# Altium footprint library CM.PcbLib: 72 footprints (part 4 of 5)
Each footprint in its own frame and in the unit in brackets; x right, y up, seen from the top. Pads: shape width x height; smd on the part's side, far side on the other; paste and mask are expansions set on the pad; w line width, h text height; cw(c..) or ccw(c..) is an arc to the next point about the centre after c.
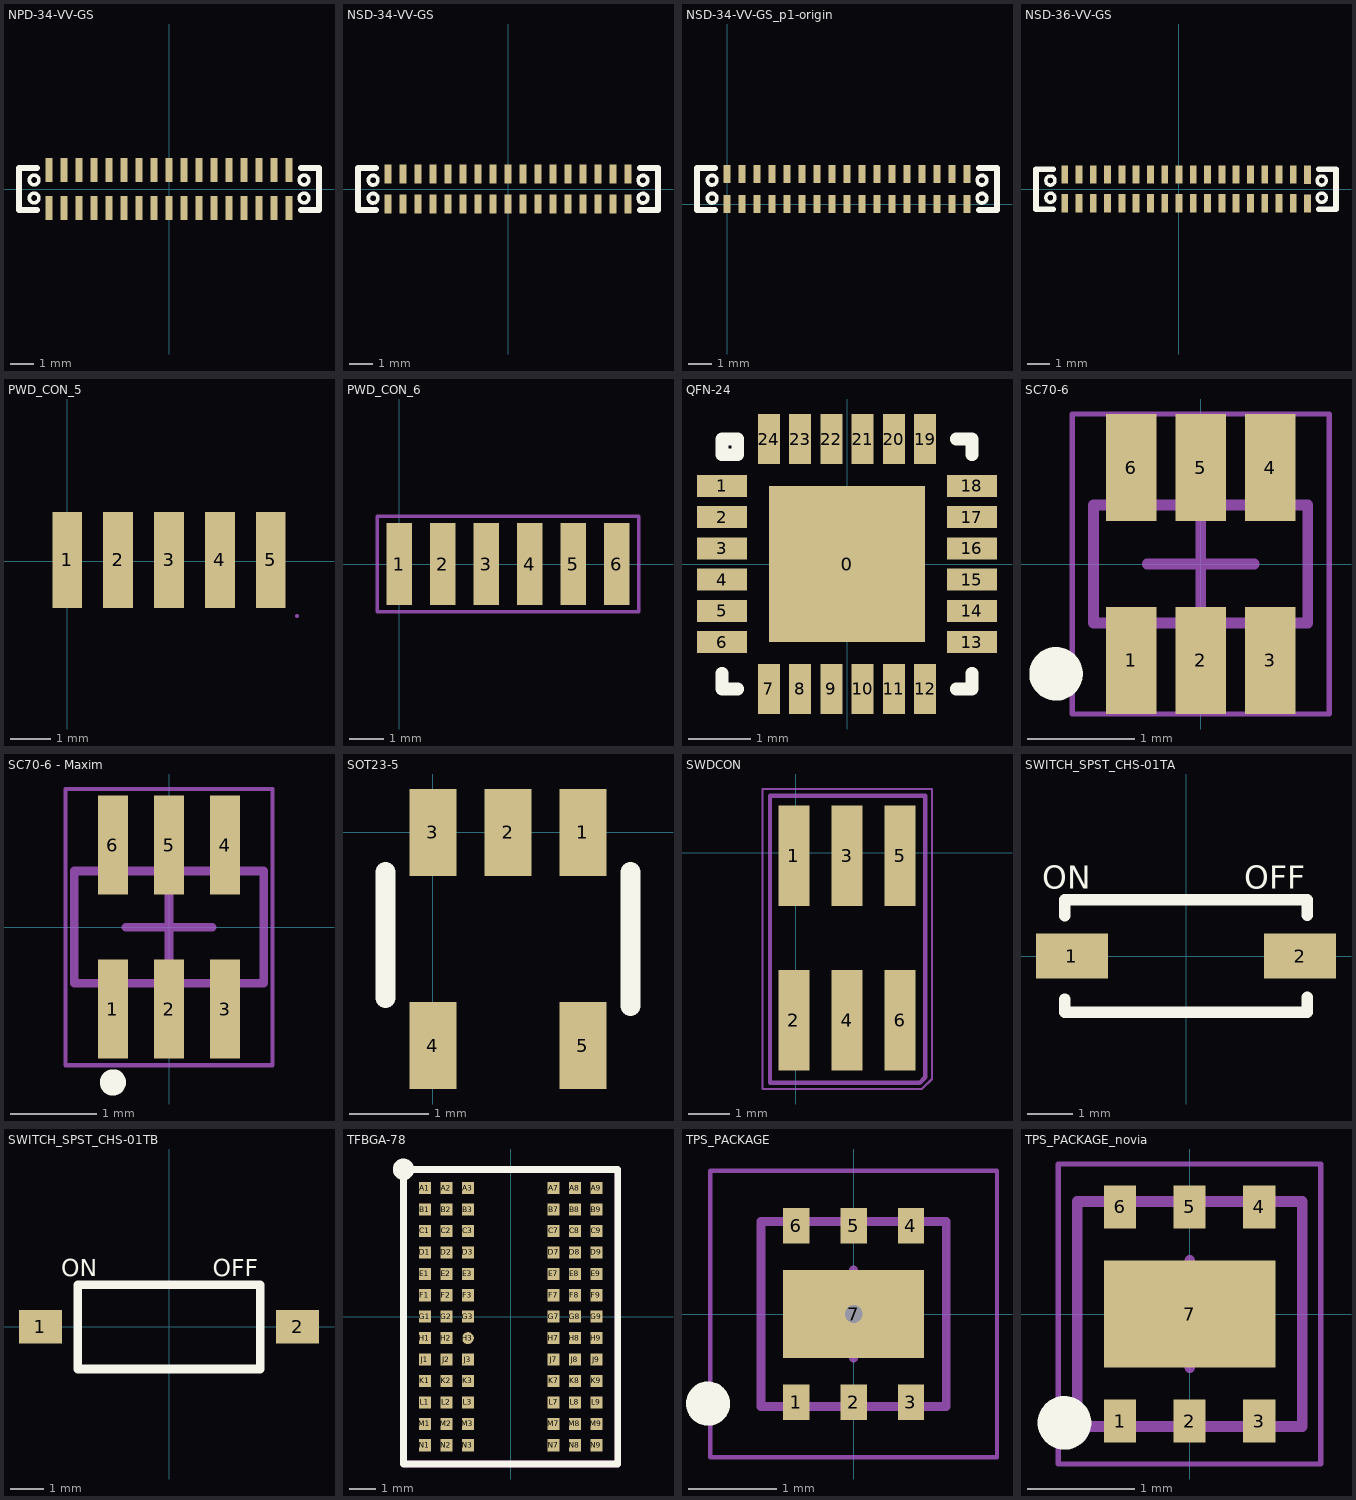
[diagram p3: the footprints below, top view; thin cyan lines are the x and y axes]

## NPD-34-VV-GS [mil]
pads (34):
  rect 12x40 smd: 1(-199.79,-32) 2(-199.79,32) 3(-174.79,-32) 4(-174.79,32) 5(-149.79,-32) 6(-149.79,32) 7(-124.79,-32) 8(-124.79,32) 9(-99.79,-32) 10(-99.79,32) 11(-74.79,-32) 12(-74.79,32) 13(-49.79,-32) 14(-49.79,32) 15(-24.79,-32) 16(-24.79,32) 17(0.21,-32) 18(0.21,32) 19(25.21,-32) 20(25.21,32) 21(50.21,-32) 22(50.21,32) 23(75.21,-32) 24(75.21,32) 25(100.21,-32) 26(100.21,32) 27(125.21,-32) 28(125.21,32) 29(150.21,-32) 30(150.21,32) 31(175.21,-32) 32(175.21,32) 33(200.21,-32) 34(200.21,32)
Top Overlay:
  circle w6: c-224.79,15 r8
  circle w6: c-224.79,-15 r8
  circle w6: c225.02,-15 r8
  circle w6: c225.02,15 r8
  lines w10: -220,-35 -250,-35 -250,35 -220,35 ; 220,-35 250,-35 250,35 220,35

## NSD-34-VV-GS [mil]
pads (34):
  rect 12x32 smd: 1(-199.79,-24.62) 2(-199.79,25.38) 3(-174.79,-24.62) 4(-174.79,25.38) 5(-149.79,-24.62) 6(-149.79,25.38) 7(-124.79,-24.62) 8(-124.79,25.38) 9(-99.79,-24.62) 10(-99.79,25.38) 11(-74.79,-24.62) 12(-74.79,25.38) 13(-49.79,-24.62) 14(-49.79,25.38) 15(-24.79,-24.62) 16(-24.79,25.38) 17(0.21,-24.62) 18(0.21,25.38) 19(25.21,-24.62) 20(25.21,25.38) 21(50.21,-24.62) 22(50.21,25.38) 23(75.21,-24.62) 24(75.21,25.38) 25(100.21,-24.62) 26(100.21,25.38) 27(125.21,-24.62) 28(125.21,25.38) 29(150.21,-24.62) 30(150.21,25.38) 31(175.21,-24.62) 32(175.21,25.38) 33(200.21,-24.62) 34(200.21,25.38)
Top Overlay:
  circle w6: c225.02,15 r8
  circle w6: c225.02,-15 r8
  circle w6: c-224.79,-15 r8
  circle w6: c-224.79,15 r8
  lines w10: -220,-35 -250,-35 -250,35 -220,35 ; 220,-35 250,-35 250,35 220,35

## NSD-34-VV-GS_p1-origin [mil]
pads (34):
  rect 12x30 smd: 1(0,0) 2(0,50) 3(25,0) 4(25,50) 5(50,0) 6(50,50) 7(75,0) 8(75,50) 9(100,0) 10(100,50) 11(125,0) 12(125,50) 13(150,0) 14(150,50) 15(175,0) 16(175,50) 17(200,0) 18(200,50) 19(225,0) 20(225,50) 21(250,0) 22(250,50) 23(275,0) 24(275,50) 25(300,0) 26(300,50) 27(325,0) 28(325,50) 29(350,0) 30(350,50) 31(375,0) 32(375,50) 33(400,0) 34(400,50)
Top Overlay:
  circle w6: c-25,39.62 r8
  circle w6: c-25,9.62 r8
  circle w6: c424.8,9.62 r8
  circle w6: c424.8,39.62 r8
  lines w10: -20.21,-10.38 -50.21,-10.38 -50.21,59.62 -20.21,59.62 ; 419.79,-10.38 449.79,-10.38 449.79,59.62 419.79,59.62

## NSD-36-VV-GS [mil]
pads (36):
  rect 12x32 smd: 1(-199.79,-24.62) 2(-199.79,25.38) 3(-174.79,-24.62) 4(-174.79,25.38) 5(-149.79,-24.62) 6(-149.79,25.38) 7(-124.79,-24.62) 8(-124.79,25.38) 9(-99.79,-24.62) 10(-99.79,25.38) 11(-74.79,-24.62) 12(-74.79,25.38) 13(-49.79,-24.62) 14(-49.79,25.38) 15(-24.79,-24.62) 16(-24.79,25.38) 17(0.21,-24.62) 18(0.21,25.38) 19(25.21,-24.62) 20(25.21,25.38) 21(50.21,-24.62) 22(50.21,25.38) 23(75.21,-24.62) 24(75.21,25.38) 25(100.21,-24.62) 26(100.21,25.38) 27(125.21,-24.62) 28(125.21,25.38) 29(150.21,-24.62) 30(150.21,25.38) 31(175.21,-24.62) 32(175.21,25.38) 33(200.21,-24.62) 34(200.21,25.38) 35(225,-25) 36(225,25)
Top Overlay:
  circle w6: c-224.79,15 r8
  circle w6: c-224.79,-15 r8
  circle w6: c250.02,-15 r8
  circle w6: c250.02,15 r8
  lines w10: -220,-35 -250,-35 -250,35 -220,35 ; 245,-35 275,-35 275,35 245,35
3D body: height 222.83, standoff 0, extent -250.98,-35.43 274.61,34.45

## PWD_CON_5 [mm]
pads (5):
  rect 0.74x2.4 smd: 1(0,0.03) 2(1.27,0.03) 3(2.54,0.03) 4(3.81,0.03) 5(5.08,0.03)
Mechanical 13:
  lines w0.1: 5.728,-1.368 5.73,-1.37

## PWD_CON_6 [mm]
pads (6):
  rect 0.74x2.4 smd: 1(0,0) 2(1.27,0) 3(2.54,0) 4(3.81,0) 5(5.08,0) 6(6.35,0)
Mechanical 13:
  lines w0.1: -0.635,-1.397 6.985,-1.397 6.985,1.397 -0.635,1.397 -0.635,-1.397
Mechanical 15:
  lines w0.05: -0.635,-1.397 2.468,-1.397 6.985,-1.397 6.985,1.397 -0.635,1.397 -0.635,-1.397

## QFN-24 [mm] "From MPU60x0 datasheet"
pads (25):
  rect 2.5x2.5 smd: 0(0,0)
  rect 0.8x0.35 smd: 1(-2,1.25) 2(-2,0.75) 3(-2,0.25) 4(-2,-0.25) 5(-2,-0.75) 6(-2,-1.25) 13(2,-1.25) 14(2,-0.75) 15(2,-0.25) 16(2,0.25) 17(2,0.75) 18(2,1.25)
  rect 0.35x0.8 smd: 7(-1.25,-2) 8(-0.75,-2) 9(-0.25,-2) 10(0.25,-2) 11(0.75,-2) 12(1.25,-2) 19(1.25,2) 20(0.75,2) 21(0.25,2) 22(-0.25,2) 23(-0.75,2) 24(-1.25,2)
Top Overlay:
  lines w0.203: -2,-1.75 -2,-2 -1.75,-2 ; 1.75,-2 2,-2 2,-1.75 ; 1.75,2 2,2 2,1.75 ; -2,1.75 -1.75,1.75 -1.75,2 -2,2 -2,1.75
3D body: height 0.9, standoff 0, extent -2,-2 2,2

## SC70-6 [mm] "QFN, 6-Leads, Body 2,00x2,00mm, Pitch 0,65mm, Thermal Pad 1,60x1,00mm, IPC Medium Density"
height 0.8
pads (6):
  rect 0.47x1 smd: 1(-0.65,-0.9) 2(0,-0.9) 3(0.65,-0.9) 4(0.65,0.9) 5(0,0.9) 6(-0.65,0.9)
Top Overlay:
  circle w0.25: c-1.35,-1.025 r0.125
Mechanical 13:
  lines w0.1: -1,-0.55 1,-0.55 ; -1,-0.525 -1,0.55 1,0.55 1,-0.525
Mechanical 15:
  lines w0.05: -1.2,-1.4 1.2,-1.4 1.2,1.4 -1.2,1.4 -1.2,-1.4
  lines w0.1: -0.5,0 0.5,0 ; 0,-0.5 0,0.5
3D body: height 0.8, standoff 0.05, extent -1,-0.55 1,0.55

## SC70-6 - Maxim [mm] "QFN, 6-Leads, Body 2,00x2,00mm, Pitch 0,65mm, Thermal Pad 1,60x1,00mm, IPC Medium Density"
height 0.8
pads (6):
  rect 0.35x1.15 smd: 1(-0.65,-0.95) 2(0,-0.95) 3(0.65,-0.95) 4(0.65,0.95) 5(0,0.95) 6(-0.65,0.95)
Top Overlay:
  circle w0.152: c-0.65,-1.8 r0.076
Mechanical 13:
  lines w0.1: -1.1,-0.65 -1.1,0.65 1.1,0.65 1.1,-0.65 -1.1,-0.65
Mechanical 15:
  lines w0.05: -1.2,-1.6 1.2,-1.6 1.2,1.6 -1.2,1.6 -1.2,-1.6
  lines w0.1: -0.5,0 0.5,0 ; 0,-0.5 0,0.5
3D body: height 0.8, standoff 0.05, extent -1,-0.55 1,0.55

## SOT23-5 [mm]
pads (5):
  rect 0.6x1.1 smd: 1(1.9,0) 2(0.95,0) 3(0,0) 4(0,-2.7) 5(1.9,-2.7)
Top Overlay:
  lines w0.254: -0.6,-2.1 -0.6,-0.5 ; 2.5,-2.2 2.5,-0.5

## SWDCON [mm]
pads (6):
  rect 0.74x2.4 smd: 1(-0.04,-0.08) 2(-0.04,-4.01) 3(1.23,-0.08) 4(1.23,-4.01) 5(2.5,-0.08) 6(2.5,-4.01)
Mechanical 13:
  lines w0.1: -0.61,-5.5 -0.61,1.36 3.1,1.36 3.1,-2.392 3.1,-3.11 3.1,-5.37 2.97,-5.5 -0.61,-5.5
Mechanical 15:
  lines w0.05: -0.79,-5.65 -0.79,1.52 3.26,1.52 3.26,-3.28 3.26,-5.41 3.02,-5.65 -0.79,-5.65
3D body: height 0.8, standoff 0.05, extent -0.626,-4.55 3.1,0.35

## SWITCH_SPST_CHS-01TA [mm] "One bit SPST DIP switch, J-hook"
pads (2):
  rect 1.6x1 smd: 1(-2.54,0) 2(2.54,0)
Top Overlay:
  lines w0.254: -2.7,-0.958 -2.7,-1.25 2.7,-1.25 2.7,-0.922 ; -2.7,0.897 -2.7,1.25 2.7,1.25 2.7,0.907
  text "OFF" at 1.3,1.5 h0.51
  text "ON" at -3.2,1.5 h0.51

## SWITCH_SPST_CHS-01TB [mm] "One bit SPST DIP switch, gull wing"
pads (2):
  rect 1.27x1 smd: 1(-3.81,0) 2(3.81,0)
Top Overlay:
  lines w0.254: -2.7,-1.25 2.7,-1.25 2.7,1.25 -2.7,1.25 -2.7,-1.25
  text "ON" at -3.2,1.5 h0.51
  text "OFF" at 1.3,1.5 h0.51
3D body: height 2.5, standoff 0, extent -2.7,-1.25 2.7,1.25

## TFBGA-78 [mm]
pads (78):
  rect 0.45x0.45 smd: A1(-3.2,4.8) A2(-2.4,4.8) A3(-1.6,4.8) A7(1.6,4.8) A8(2.4,4.8) A9(3.2,4.8) B1(-3.2,4) B2(-2.4,4) B3(-1.6,4) B7(1.6,4) B8(2.4,4) B9(3.2,4) C1(-3.2,3.2) C2(-2.4,3.2) C3(-1.6,3.2) C7(1.6,3.2) C8(2.4,3.2) C9(3.2,3.2) D1(-3.2,2.4) D2(-2.4,2.4) D3(-1.6,2.4) D7(1.6,2.4) D8(2.4,2.4) D9(3.2,2.4) E1(-3.2,1.6) E2(-2.4,1.6) E3(-1.6,1.6) E7(1.6,1.6) E8(2.4,1.6) E9(3.2,1.6) F1(-3.2,0.8) F2(-2.4,0.8) F3(-1.6,0.8) F7(1.6,0.8) F8(2.4,0.8) F9(3.2,0.8) G1(-3.2,0) G2(-2.4,0) G3(-1.6,0) G7(1.6,0) G8(2.4,0) G9(3.2,0) H1(-3.2,-0.8) H2(-2.4,-0.8) H7(1.6,-0.8) H8(2.4,-0.8) H9(3.2,-0.8) J1(-3.2,-1.6) J2(-2.4,-1.6) J3(-1.6,-1.6) J7(1.6,-1.6) J8(2.4,-1.6) J9(3.2,-1.6) K1(-3.2,-2.4) K2(-2.4,-2.4) K3(-1.6,-2.4) K7(1.6,-2.4) K8(2.4,-2.4) K9(3.2,-2.4) L1(-3.2,-3.2) L2(-2.4,-3.2) L3(-1.6,-3.2) L7(1.6,-3.2) L8(2.4,-3.2) L9(3.2,-3.2) M1(-3.2,-4) M2(-2.4,-4) M3(-1.6,-4) M7(1.6,-4) M8(2.4,-4) M9(3.2,-4) N1(-3.2,-4.8) N2(-2.4,-4.8) N3(-1.6,-4.8) N7(1.6,-4.8) N8(2.4,-4.8) N9(3.2,-4.8)
  round 0.45 smd: H3(-1.6,-0.8)
Top Overlay:
  circle w0.4: c-4,5.5 r0.2
  lines w0.254: -4,-5.5 -4,5.5 4,5.5 4,-5.5 -4,-5.5
Keep-Out Layer:
  lines w0.254: -4,-5.5 -4,5.5 4,5.5 4,-5.5 -4,-5.5

## TPS_PACKAGE [mm] "QFN, 6-Leads, Body 2,00x2,00mm, Pitch 0,65mm, Thermal Pad 1,60x1,00mm, IPC Medium Density"
height 0.8
pads (7):
  rect 0.3x0.4 smd: 1(-0.65,-1) 2(0,-1) 3(0.65,-1) 4(0.65,1) 5(0,1) 6(-0.65,1)
  rect 1.6x1 smd: 7(0,0)
via 0,0 diameter 0.5 hole 0.2
Top Overlay:
  circle w0.25: c-1.651,-1.016 r0.125
Mechanical 13:
  lines w0.1: -1.05,-1.05 -1.05,1.05 1.05,1.05 1.05,-1.05 -1.05,-1.05
Mechanical 15:
  lines w0.05: -1.625,-1.625 -1.625,1.625 1.625,1.625 1.625,-1.625 -1.625,-1.625
  lines w0.1: -0.5,0 0.5,0 ; 0,-0.5 0,0.5
3D body: height 0.8, standoff 0.05, extent -1.05,-1.05 1.05,1.05

## TPS_PACKAGE_novia [mm] "QFN, 6-Leads, Body 2,00x2,00mm, Pitch 0,65mm, Thermal Pad 1,60x1,00mm, IPC Medium Density"
height 0.8
pads (7):
  rect 0.3x0.4 smd: 1(-0.65,-1) 2(0,-1) 3(0.65,-1) 4(0.65,1) 5(0,1) 6(-0.65,1)
  rect 1.6x1 smd: 7(0,0)
Top Overlay:
  circle w0.25: c-1.168,-1.016 r0.125
Mechanical 13:
  lines w0.1: -1.05,-1.05 -1.05,1.05 1.05,1.05 1.05,-1.05 -1.05,-1.05
Mechanical 15:
  lines w0.05: -1.225,-1.4 -1.225,1.4 1.225,1.4 1.225,-1.4 -1.225,-1.4
  lines w0.1: -0.5,0 0.5,0 ; 0,-0.5 0,0.5
3D body: height 0.75, standoff 0.05, extent -1,-1 1,1